# Altium footprint library HAKATAYA.PcbLib: 227 footprints (part 11 of 15)
Each footprint in its own frame and in the unit in brackets; x right, y up, seen from the top. Pads: shape width x height; smd on the part's side, far side on the other; paste and mask are expansions set on the pad; w line width, h text height; cw(c..) or ccw(c..) is an arc to the next point about the centre after c.
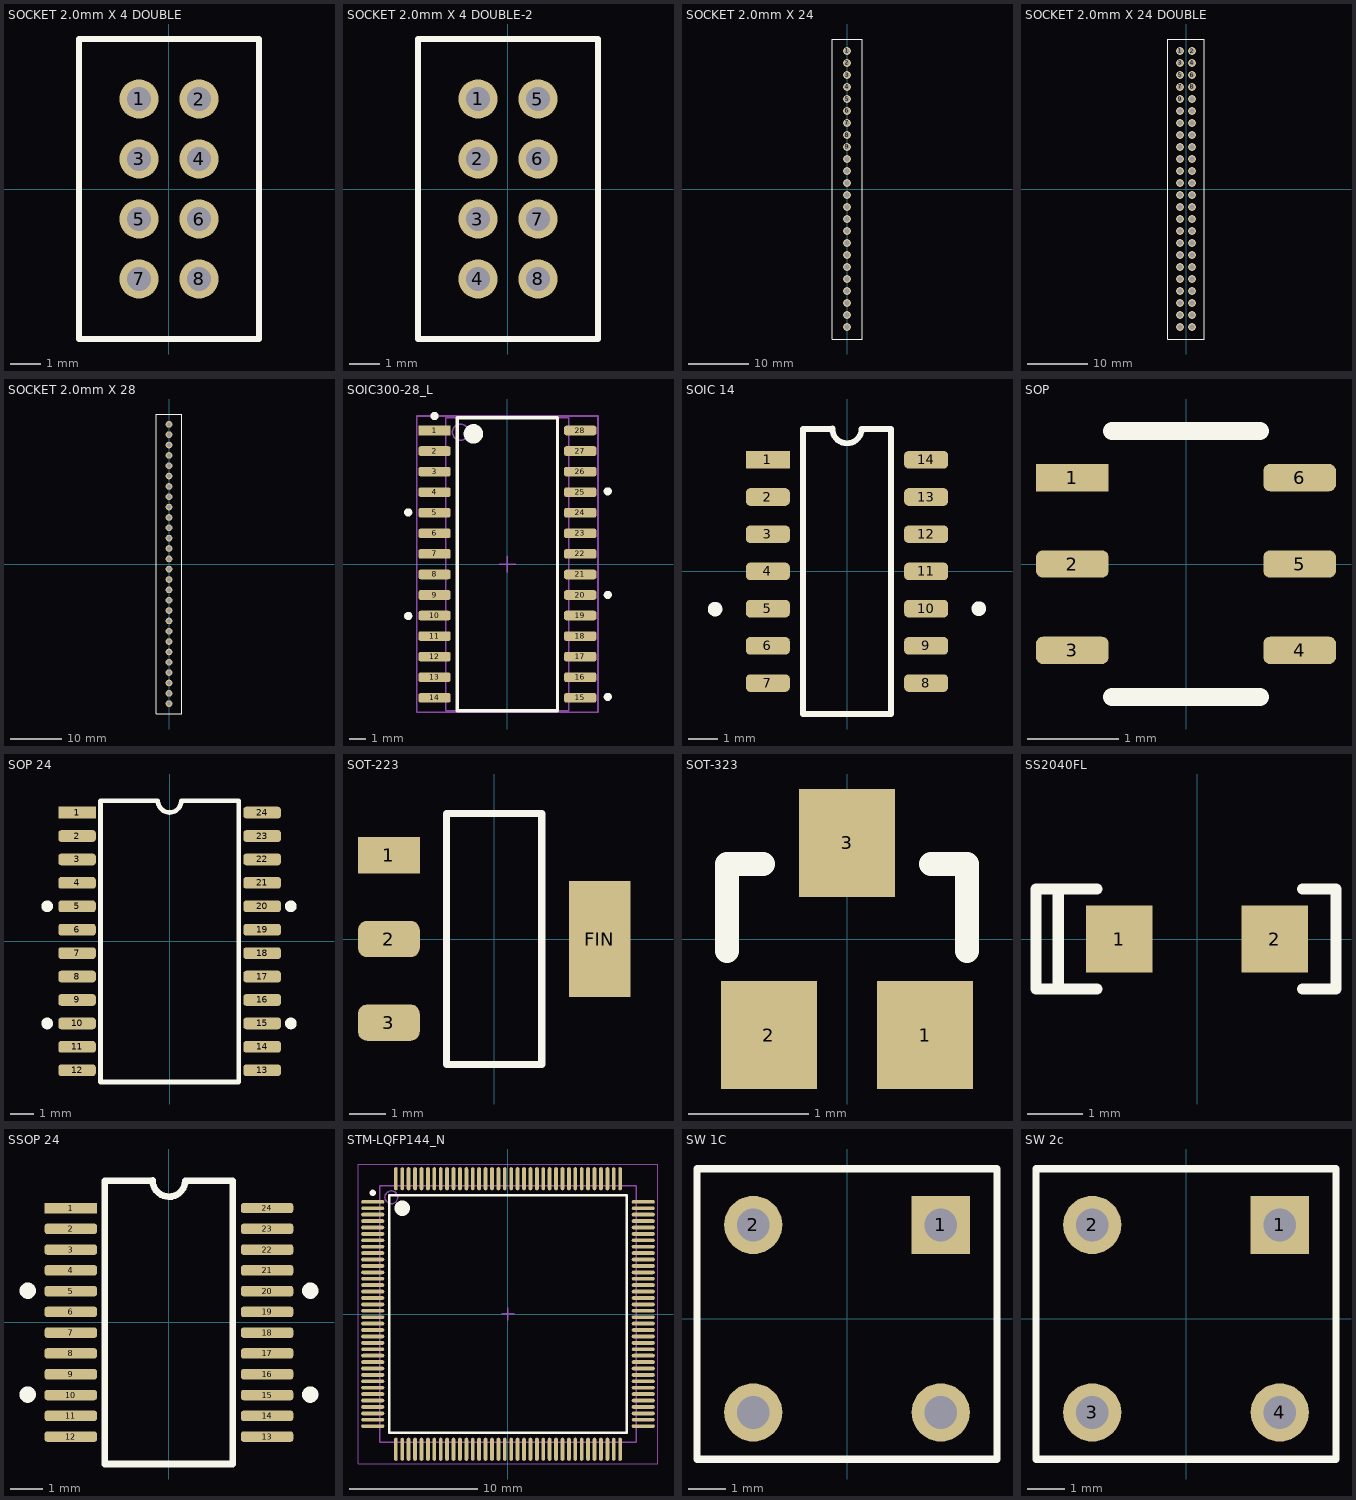
[diagram p10: the footprints below, top view; thin cyan lines are the x and y axes]

## SOCKET 2.0mm X 4 DOUBLE [mm]
pads (8):
  round 1.3 hole 0.8: 1(-1,3) 2(1,3) 3(-1,1) 4(1,1) 5(-1,-1) 6(1,-1) 7(-1,-3) 8(1,-3)
Top Overlay:
  lines w0.2: -3,-5 3,-5 3,5 -3,5 -3,-5

## SOCKET 2.0mm X 4 DOUBLE-2 [mm]
pads (8):
  round 1.3 hole 0.8: 1(-1,3) 2(-1,1) 3(-1,-1) 4(-1,-3) 5(1,3) 6(1,1) 7(1,-1) 8(1,-3)
Top Overlay:
  lines w0.2: -3,-5 -3,5 3,5 3,-5 -3,-5

## SOCKET 2.0mm X 24 [mm]
pads (24):
  round 1.3 hole 0.8: 1(0,23) 2(0,21) 3(0,19) 4(0,17) 5(0,15) 6(0,13) 7(0,11) 8(0,9) 9(0,7) 10(0,5) 11(0,3) 12(0,1) 13(0,-1) 14(0,-3) 15(0,-5) 16(0,-7) 17(0,-9) 18(0,-11) 19(0,-13) 20(0,-15) 21(0,-17) 22(0,-19) 23(0,-21) 24(0,-23)
Top Overlay:
  lines w0.2: -2.5,-25 2.5,-25 2.5,25 -2.5,25 -2.5,-25

## SOCKET 2.0mm X 24 DOUBLE [mm]
pads (48):
  round 1.3 hole 0.8: 1(-1,23) 2(1,23) 3(-1,21) 4(1,21) 5(-1,19) 6(1,19) 7(-1,17) 8(1,17) 9(-1,15) 10(1,15) 11(-1,13) 12(1,13) 13(-1,11) 14(1,11) 15(-1,9) 16(1,9) 17(-1,7) 18(1,7) 19(-1,5) 20(1,5) 21(-1,3) 22(1,3) 23(-1,1) 24(1,1) 25(-1,-1) 26(1,-1) 27(-1,-3) 28(1,-3) 29(-1,-5) 30(1,-5) 31(-1,-7) 32(1,-7) 33(-1,-9) 34(1,-9) 35(-1,-11) 36(1,-11) 37(-1,-13) 38(1,-13) 39(-1,-15) 40(1,-15) 41(-1,-17) 42(1,-17) 43(-1,-19) 44(1,-19) 45(-1,-21) 46(1,-21) 47(-1,-23) 48(1,-23)
Top Overlay:
  lines w0.2: -3,-25 -3,25 3,25 3,-25 -3,-25

## SOCKET 2.0mm X 28 [mm]
pads (28):
  round 1.3 hole 0.8: 1(0,27) 2(0,25) 3(0,23) 4(0,21) 5(0,19) 6(0,17) 7(0,15) 8(0,13) 9(0,11) 10(0,9) 11(0,7) 12(0,5) 13(0,3) 14(0,1) 15(0,-1) 16(0,-3) 17(0,-5) 18(0,-7) 19(0,-9) 20(0,-11) 21(0,-13) 22(0,-15) 23(0,-17) 24(0,-19) 25(0,-21) 26(0,-23) 27(0,-25) 28(0,-27)
Top Overlay:
  lines w0.2: -2.5,-29 -2.5,29 2.5,29 2.5,-29 -2.5,-29

## SOIC300-28_L [mm] "2PIC 1.27 mm Pitch"
height 2.65
pads (28):
  rect 2x0.6 smd: 1(-4.5,8.255)
  rrect50% 2x0.6 smd: 2(-4.5,6.985) 3(-4.5,5.715) 4(-4.5,4.445) 5(-4.5,3.175) 6(-4.5,1.905) 7(-4.5,0.635) 8(-4.5,-0.635) 9(-4.5,-1.905) 10(-4.5,-3.175) 11(-4.5,-4.445) 12(-4.5,-5.715) 13(-4.5,-6.985) 14(-4.5,-8.255) 15(4.5,-8.255) 16(4.5,-6.985) 17(4.5,-5.715) 18(4.5,-4.445) 19(4.5,-3.175) 20(4.5,-1.905) 21(4.5,-0.635) 22(4.5,0.635) 23(4.5,1.905) 24(4.5,3.175) 25(4.5,4.445) 26(4.5,5.715) 27(4.5,6.985) 28(4.5,8.255)
Top Overlay:
  circle w0.25: c-4.5,9.15 r0.125
  circle w0.25: c6.2,4.5 r0.125
  circle w0.25: c6.2,-1.9 r0.125
  circle w0.25: c6.2,-8.2 r0.125
  circle w0.25: c-6.125,-3.2 r0.125
  circle w0.25: c-6.125,3.2 r0.125
  circle w0.6: c-2.1,8.05 r0.3
  lines w0.2: -3.1,-9.05 3.1,-9.05 3.1,9.05 -3.1,9.05 -3.1,-9.05
Mechanical 13:
  circle w0.1: c-2.9,8.155 r0.5
  lines w0.1: -3.8,-9.055 3.8,-9.055 3.8,9.055 -3.8,9.055 -3.8,-9.055
Mechanical 15:
  lines w0.1: -0.5,0 0.5,0 ; 0,-0.5 0,0.5 ; -5.6,-9.15 5.6,-9.15 5.6,9.15 -5.6,9.15 -5.6,-9.15
3D body: height 2.65, standoff 0, extent -3.8,-9.055 3.8,9.055

## SOIC 14 [mm] "BODY 3.9mm pitch 1.27mm NARROW"
pads (14):
  rect 1.5x0.6 smd: 1(-2.7,3.81)
  rrect50% 1.5x0.6 smd: 2(-2.7,2.54) 3(-2.7,1.27) 4(-2.7,0) 5(-2.7,-1.27) 6(-2.7,-2.54) 7(-2.7,-3.81) 8(2.7,-3.81) 9(2.7,-2.54) 10(2.7,-1.27) 11(2.7,0) 12(2.7,1.27) 13(2.7,2.54) 14(2.7,3.81)
Top Overlay:
  circle w0.25: c4.5,-1.27 r0.125
  circle w0.25: c-4.5,-1.285 r0.125
  lines w0.2: -0.5,4.865 -1.5,4.865 -1.5,-4.865 1.5,-4.865 1.5,4.865 0.5,4.865 cw(c0,4.872) -0.5,4.872

## SOP [mm] "2.926 x 1.90 pitch 0.95"
pads (6):
  rect 0.8x0.3 smd: 1(-1.25,0.95)
  rrect50% 0.8x0.3 smd: 2(-1.25,0) 3(-1.25,-0.95) 4(1.25,-0.95) 5(1.25,0) 6(1.25,0.95)
Top Overlay:
  lines w0.2: -0.813,-1.463 0.813,-1.463 ; -0.813,1.463 0.813,1.463

## SOP 24 [mm] "6x13 Pitch 1.00"
pads (24):
  rect 1.6x0.5 smd: 1(-3.95,5.5)
  rrect50% 1.6x0.5 smd: 2(-3.95,4.5) 3(-3.95,3.5) 4(-3.95,2.5) 5(-3.95,1.5) 6(-3.95,0.5) 7(-3.95,-0.5) 8(-3.95,-1.5) 9(-3.95,-2.5) 10(-3.95,-3.5) 11(-3.95,-4.5) 12(-3.95,-5.5) 13(3.95,-5.5) 14(3.95,-4.5) 15(3.95,-3.5) 16(3.95,-2.5) 17(3.95,-1.5) 18(3.95,-0.5) 19(3.95,0.5) 20(3.95,1.5) 21(3.95,2.5) 22(3.95,3.5) 23(3.95,4.5) 24(3.95,5.5)
Top Overlay:
  circle w0.25: c-5.225,-3.5 r0.125
  circle w0.25: c-5.225,1.5 r0.125
  circle w0.25: c5.175,1.5 r0.125
  circle w0.25: c5.175,-3.5 r0.125
  lines w0.2: -0.5,6 -2.95,6 -2.95,-6 2.95,-6 2.95,6 0.5,6 cw(c0,6.007) -0.5,6.007

## SOT-223 [mm] "AZ1086H-3.3"
height 1.8
pads (4):
  rect 1.7x1 smd: 1(-2.9,2.3)
  rrect50% 1.7x1 smd: 2(-2.9,0) 3(-2.9,-2.3)
  rect 1.7x3.2 smd: FIN(2.9,0)
Top Overlay:
  lines w0.2: -1.315,-3.45 1.3,-3.45 1.3,3.45 -1.315,3.45 -1.315,-3.45

## SOT-323 [mm]
pads (3):
  rect 0.8x0.9 smd: 1(0.65,-0.8) 2(-0.65,-0.8) 3(0,0.8)
Top Overlay:
  lines w0.2: -1,-0.1 -1,0.625 -0.7,0.625 ; 0.7,0.625 1,0.625 1,-0.1

## SS2040FL [mm] "DIODE"
height 1.08
pads (2):
  rect 1.2x1.2 smd: 1(-1.4,0) 2(1.4,0)
Top Overlay:
  lines w0.2: -2.5,-0.9 -2.5,0.9 ; -1.8,-0.9 -2.9,-0.9 -2.9,0.9 -1.8,0.9 ; 1.9,-0.9 2.5,-0.9 2.5,0.9 1.9,0.9

## SSOP 24 [mm] "BODY 3.91*8.66, PITCH 0.635mm"
pads (24):
  rect 1.6x0.32 smd: 1(-3,3.492)
  rrect50% 1.6x0.32 smd: 2(-3,2.857) 3(-3,2.222) 4(-3,1.587) 5(-3,0.953) 6(-3,0.318) 7(-3,-0.318) 8(-3,-0.953) 9(-3,-1.587) 10(-3,-2.222) 11(-3,-2.857) 12(-3,-3.492) 13(3,-3.492) 14(3,-2.857) 15(3,-2.222) 16(3,-1.587) 17(3,-0.953) 18(3,-0.318) 19(3,0.318) 20(3,0.953) 21(3,1.587) 22(3,2.222) 23(3,2.857)
  rrect50% 1.6x0.3 smd: 24(3,3.492)
Top Overlay:
  circle w0.25: c4.32,-2.21 r0.125
  circle w0.25: c4.32,0.965 r0.125
  circle w0.25: c-4.316,0.965 r0.125
  circle w0.25: c-4.316,-2.21 r0.125
  lines w0.2: -0.5,4.331 -1.956,4.331 -1.956,-4.331 1.95,-4.331 ; -0.5,4.338 ccw(c0,4.338) 0.5,4.331 1.956,4.331 1.956,-4.331

## STM-LQFP144_N [mm] "STM-LQFP144_N"
pads (144):
  oval 1.8x0.3 smd: 1(-10.55,8.75) 2(-10.55,8.25) 3(-10.55,7.75) 4(-10.55,7.25) 5(-10.55,6.75) 6(-10.55,6.25) 7(-10.55,5.75) 8(-10.55,5.25) 9(-10.55,4.75) 10(-10.55,4.25) 11(-10.55,3.75) 12(-10.55,3.25) 13(-10.55,2.75) 14(-10.55,2.25) 15(-10.55,1.75) 16(-10.55,1.25) 17(-10.55,0.75) 18(-10.55,0.25) 19(-10.55,-0.25) 20(-10.55,-0.75) 21(-10.55,-1.25) 22(-10.55,-1.75) 23(-10.55,-2.25) 24(-10.55,-2.75) 25(-10.55,-3.25) 26(-10.55,-3.75) 27(-10.55,-4.25) 28(-10.55,-4.75) 29(-10.55,-5.25) 30(-10.55,-5.75) 31(-10.55,-6.25) 32(-10.55,-6.75) 33(-10.55,-7.25) 34(-10.55,-7.75) 35(-10.55,-8.25) 36(-10.55,-8.75) 73(10.55,-8.75) 74(10.55,-8.25) 75(10.55,-7.75) 76(10.55,-7.25) 77(10.55,-6.75) 78(10.55,-6.25) 79(10.55,-5.75) 80(10.55,-5.25) 81(10.55,-4.75) 82(10.55,-4.25) 83(10.55,-3.75) 84(10.55,-3.25) 85(10.55,-2.75) 86(10.55,-2.25) 87(10.55,-1.75) 88(10.55,-1.25) 89(10.55,-0.75) 90(10.55,-0.25) 91(10.55,0.25) 92(10.55,0.75) 93(10.55,1.25) 94(10.55,1.75) 95(10.55,2.25) 96(10.55,2.75) 97(10.55,3.25) 98(10.55,3.75) 99(10.55,4.25) 100(10.55,4.75) 101(10.55,5.25) 102(10.55,5.75) 103(10.55,6.25) 104(10.55,6.75) 105(10.55,7.25) 106(10.55,7.75) 107(10.55,8.25) 108(10.55,8.75)
  oval 0.3x1.8 smd: 37(-8.75,-10.55) 38(-8.25,-10.55) 39(-7.75,-10.55) 40(-7.25,-10.55) 41(-6.75,-10.55) 42(-6.25,-10.55) 43(-5.75,-10.55) 44(-5.25,-10.55) 45(-4.75,-10.55) 46(-4.25,-10.55) 47(-3.75,-10.55) 48(-3.25,-10.55) 49(-2.75,-10.55) 50(-2.25,-10.55) 51(-1.75,-10.55) 52(-1.25,-10.55) 53(-0.75,-10.55) 54(-0.25,-10.55) 55(0.25,-10.55) 56(0.75,-10.55) 57(1.25,-10.55) 58(1.75,-10.55) 59(2.25,-10.55) 60(2.75,-10.55) 61(3.25,-10.55) 62(3.75,-10.55) 63(4.25,-10.55) 64(4.75,-10.55) 65(5.25,-10.55) 66(5.75,-10.55) 67(6.25,-10.55) 68(6.75,-10.55) 69(7.25,-10.55) 70(7.75,-10.55) 71(8.25,-10.55) 72(8.75,-10.55) 109(8.75,10.55) 110(8.25,10.55) 111(7.75,10.55) 112(7.25,10.55) 113(6.75,10.55) 114(6.25,10.55) 115(5.75,10.55) 116(5.25,10.55) 117(4.75,10.55) 118(4.25,10.55) 119(3.75,10.55) 120(3.25,10.55) 121(2.75,10.55) 122(2.25,10.55) 123(1.75,10.55) 124(1.25,10.55) 125(0.75,10.55) 126(0.25,10.55) 127(-0.25,10.55) 128(-0.75,10.55) 129(-1.25,10.55) 130(-1.75,10.55) 131(-2.25,10.55) 132(-2.75,10.55) 133(-3.25,10.55) 134(-3.75,10.55) 135(-4.25,10.55) 136(-4.75,10.55) 137(-5.25,10.55) 138(-5.75,10.55) 139(-6.25,10.55) 140(-6.75,10.55) 141(-7.25,10.55) 142(-7.75,10.55) 143(-8.25,10.55) 144(-8.75,10.55)
Top Overlay:
  circle w0.25: c-10.55,9.45 r0.125
  circle w0.6: c-8.25,8.25 r0.3
  lines w0.2: -9.25,-9.25 -9.25,9.25 9.25,9.25 9.25,-9.25 -9.25,-9.25
Mechanical 13:
  circle w0.1: c-9.1,9.1 r0.5
  lines w0.1: -10,-10 -10,10 10,10 10,-10 -10,-10
Mechanical 15:
  lines w0.05: -11.7,-11.7 -11.7,11.7 11.7,11.7 11.7,-11.7 -11.7,-11.7
  lines w0.1: -0.5,0 0.5,0 ; 0,-0.5 0,0.5
3D body: height 1.6, standoff 0.05, extent -10,-10 10,10

## SW 1C [mil]
pads (4):
  rect 62x62 hole 35.04: 1(100,100)
  round 62 hole 35.04: 2(-100,100) ""(-100,-100) ""(100,-100)
Top Overlay:
  lines w7.87: -160,-150 -160,160 160,160 160,-150 -160,-150

## SW 2c [mil]
pads (4):
  rect 62x62 hole 35.04: 1(100,100)
  round 62 hole 35.04: 2(-100,100) 3(-100,-100) 4(100,-100)
Top Overlay:
  lines w7.87: -160,-150 160,-150 160,160 -160,160 -160,-150